# EAGLE library part 10118193-0001LF (library SamacSys_Parts)
USB Connectors 5P MICRO USB TYPE B RECEPTACLE W/ PEGS Source: Datasheet <https://componentsearchengine.com/Datasheets/1/10118193-0001LF.pdf>
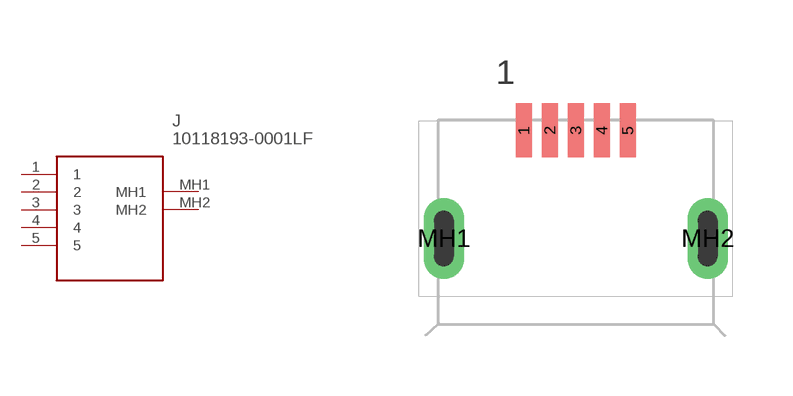
[diagram p14: symbol with the pads of 101181930001LF; footprint 101181930001LF]

Designator prefix J

## 10118193-0001LF (DESCRIPTION: USB Connectors 5P MICRO USB TYPE B RECEPTACLE W/ PEGS; HEIGHT: 3.1mm; MANUFACTURER_NAME: Amphenol; MANUFACTURER_PART_NUMBER: 10118193-0001LF; MOUSER_PART_NUMBER: 649-10118193-0001LF; MOUSER_PRICE-STOCK: https://www.mouser.co.uk/ProductDetail/Amphenol-FCI/10118193-0001LF?qs=Ywefl8B65e63Nsqd%252B8HZaQ%3D%3D)  [101181930001LF]
1  1
2  2
3  3
4  4
5  5
MH1  MH1
MH2  MH2

## Footprint 101181930001LF (pad centres in mm)
10118193-0001LF-1
smd 0.4 x 1.35: 1 -1.3,2.6; 2 -0.65,2.6; 3 0,2.6; 4 0.65,2.6; 5 1.3,2.6
drill 0.5 pad 0.9 long: MH1 -3.3,-0.1; MH2 3.3,-0.1